# EAGLE library part PIC24FJXXGA008 (library pic24gagb)
PIC24FJxxGA008
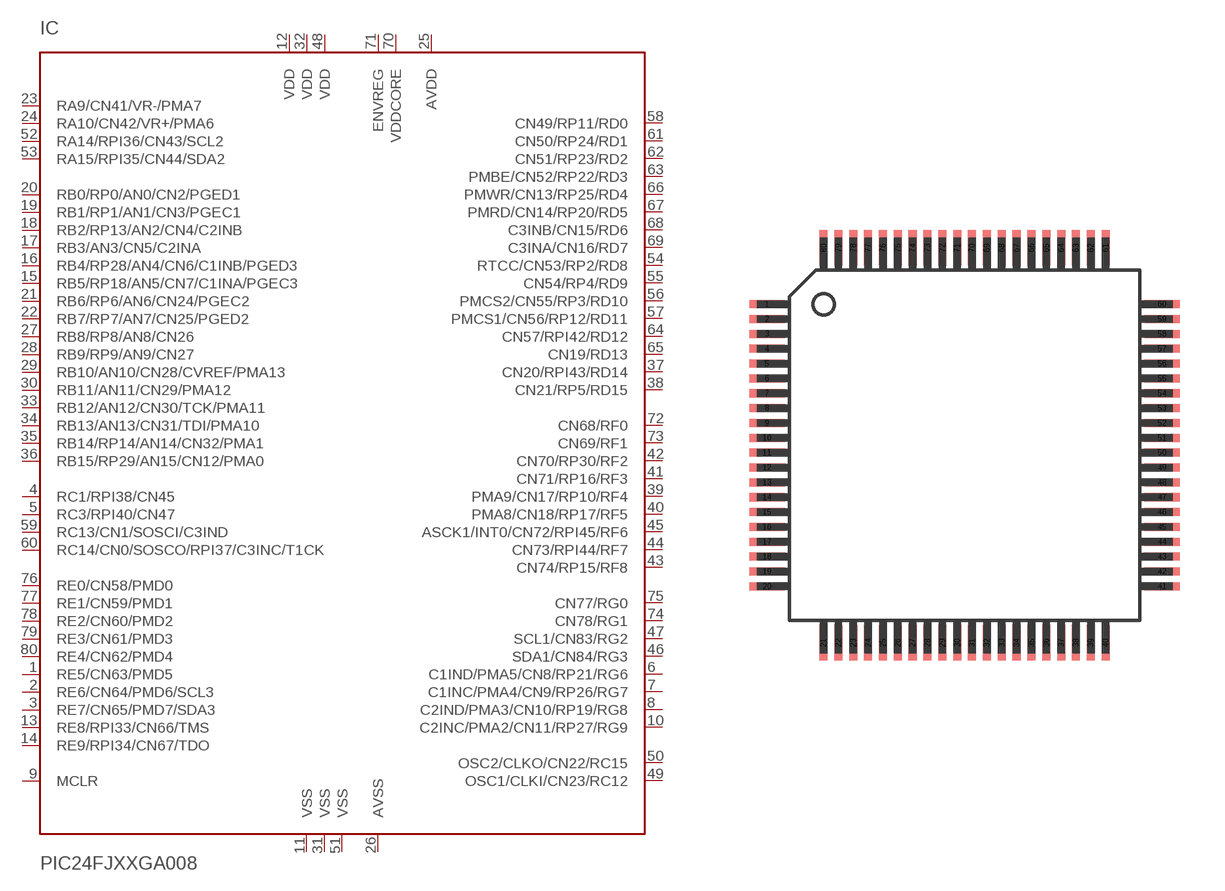
[diagram p1: symbol with the pads of TQFP80-12X12; footprint TQFP80-12X12]

Designator prefix IC

## PIC24FJXXGA008/PT  [TQFP80-12X12]
1  RE5/CN63/PMD5
2  RE6/CN64/PMD6/SCL3
3  RE7/CN65/PMD7/SDA3
4  RC1/RPI38/CN45
5  RC3/RPI40/CN47
6  C1IND/PMA5/CN8/RP21/RG6
7  C1INC/PMA4/CN9/RP26/RG7
8  C2IND/PMA3/CN10/RP19/RG8
9  MCLR  in
10  C2INC/PMA2/CN11/RP27/RG9
11  VSS  pwr
12  VDD  pwr
13  RE8/RPI33/CN66/TMS
14  RE9/RPI34/CN67/TDO
15  RB5/RP18/AN5/CN7/C1INA/PGEC3
16  RB4/RP28/AN4/CN6/C1INB/PGED3
17  RB3/AN3/CN5/C2INA
18  RB2/RP13/AN2/CN4/C2INB
19  RB1/RP1/AN1/CN3/PGEC1
20  RB0/RP0/AN0/CN2/PGED1
21  RB6/RP6/AN6/CN24/PGEC2
22  RB7/RP7/AN7/CN25/PGED2
23  RA9/CN41/VR-/PMA7
24  RA10/CN42/VR+/PMA6
25  AVDD  pwr
26  AVSS  pwr
27  RB8/RP8/AN8/CN26
28  RB9/RP9/AN9/CN27
29  RB10/AN10/CN28/CVREF/PMA13
30  RB11/AN11/CN29/PMA12
31  VSS  pwr
32  VDD  pwr
33  RB12/AN12/CN30/TCK/PMA11
34  RB13/AN13/CN31/TDI/PMA10
35  RB14/RP14/AN14/CN32/PMA1
36  RB15/RP29/AN15/CN12/PMA0
37  CN20/RPI43/RD14
38  CN21/RP5/RD15
39  PMA9/CN17/RP10/RF4
40  PMA8/CN18/RP17/RF5
41  CN71/RP16/RF3
42  CN70/RP30/RF2
43  CN74/RP15/RF8
44  CN73/RPI44/RF7
45  ASCK1/INT0/CN72/RPI45/RF6
46  SDA1/CN84/RG3
47  SCL1/CN83/RG2
48  VDD  pwr
49  OSC1/CLKI/CN23/RC12
50  OSC2/CLKO/CN22/RC15
51  VSS  pwr
52  RA14/RPI36/CN43/SCL2
53  RA15/RPI35/CN44/SDA2
54  RTCC/CN53/RP2/RD8
55  CN54/RP4/RD9
56  PMCS2/CN55/RP3/RD10
57  PMCS1/CN56/RP12/RD11
58  CN49/RP11/RD0
59  RC13/CN1/SOSCI/C3IND
60  RC14/CN0/SOSCO/RPI37/C3INC/T1CK
61  CN50/RP24/RD1
62  CN51/RP23/RD2
63  PMBE/CN52/RP22/RD3
64  CN57/RPI42/RD12
65  CN19/RD13
66  PMWR/CN13/RP25/RD4
67  PMRD/CN14/RP20/RD5
68  C3INB/CN15/RD6
69  C3INA/CN16/RD7
70  VDDCORE  pwr
71  ENVREG  pwr
72  CN68/RF0
73  CN69/RF1
74  CN78/RG1
75  CN77/RG0
76  RE0/CN58/PMD0
77  RE1/CN59/PMD1
78  RE2/CN60/PMD2
79  RE3/CN61/PMD3
80  RE4/CN62/PMD4

## Footprint TQFP80-12X12 (pad centres in mm)
Thin Quad Flat Pack
smd 1.2 x 0.27: 1 -6.65,4.75; 2 -6.65,4.25; 3 -6.65,3.75; 4 -6.65,3.25; 5 -6.65,2.75; 6 -6.65,2.25; 7 -6.65,1.75; 8 -6.65,1.25; 9 -6.65,0.75; 10 -6.65,0.25; 11 -6.65,-0.25; 12 -6.65,-0.75; 13 -6.65,-1.25; 14 -6.65,-1.75; 15 -6.65,-2.25; 16 -6.65,-2.75; 17 -6.65,-3.25; 18 -6.65,-3.75; 19 -6.65,-4.25; 20 -6.65,-4.75; 41 6.65,-4.75; 42 6.65,-4.25; 43 6.65,-3.75; 44 6.65,-3.25; 45 6.65,-2.75; 46 6.65,-2.25; 47 6.65,-1.75; 48 6.65,-1.25; 49 6.65,-0.75; 50 6.65,-0.25; 51 6.65,0.25; 52 6.65,0.75; 53 6.65,1.25; 54 6.65,1.75; 55 6.65,2.25; 56 6.65,2.75; 57 6.65,3.25; 58 6.65,3.75; 59 6.65,4.25; 60 6.65,4.75
smd 0.27 x 1.2: 21 -4.75,-6.65; 22 -4.25,-6.65; 23 -3.75,-6.65; 24 -3.25,-6.65; 25 -2.75,-6.65; 26 -2.25,-6.65; 27 -1.75,-6.65; 28 -1.25,-6.65; 29 -0.75,-6.65; 30 -0.25,-6.65; 31 0.25,-6.65; 32 0.75,-6.65; 33 1.25,-6.65; 34 1.75,-6.65; 35 2.25,-6.65; 36 2.75,-6.65; 37 3.25,-6.65; 38 3.75,-6.65; 39 4.25,-6.65; 40 4.75,-6.65; 61 4.75,6.65; 62 4.25,6.65; 63 3.75,6.65; 64 3.25,6.65; 65 2.75,6.65; 66 2.25,6.65; 67 1.75,6.65; 68 1.25,6.65; 69 0.75,6.65; 70 0.25,6.65; 71 -0.25,6.65; 72 -0.75,6.65; 73 -1.25,6.65; 74 -1.75,6.65; 75 -2.25,6.65; 76 -2.75,6.65; 77 -3.25,6.65; 78 -3.75,6.65; 79 -4.25,6.65; 80 -4.75,6.65